# Altium footprint library SparkFun-RF.PCBLIB: 42 footprints (part 1 of 3)
Each footprint in its own frame and in the unit in brackets; x right, y up, seen from the top. Pads: shape width x height; smd on the part's side, far side on the other; paste and mask are expansions set on the pad; w line width, h text height; cw(c..) or ccw(c..) is an arc to the next point about the centre after c.
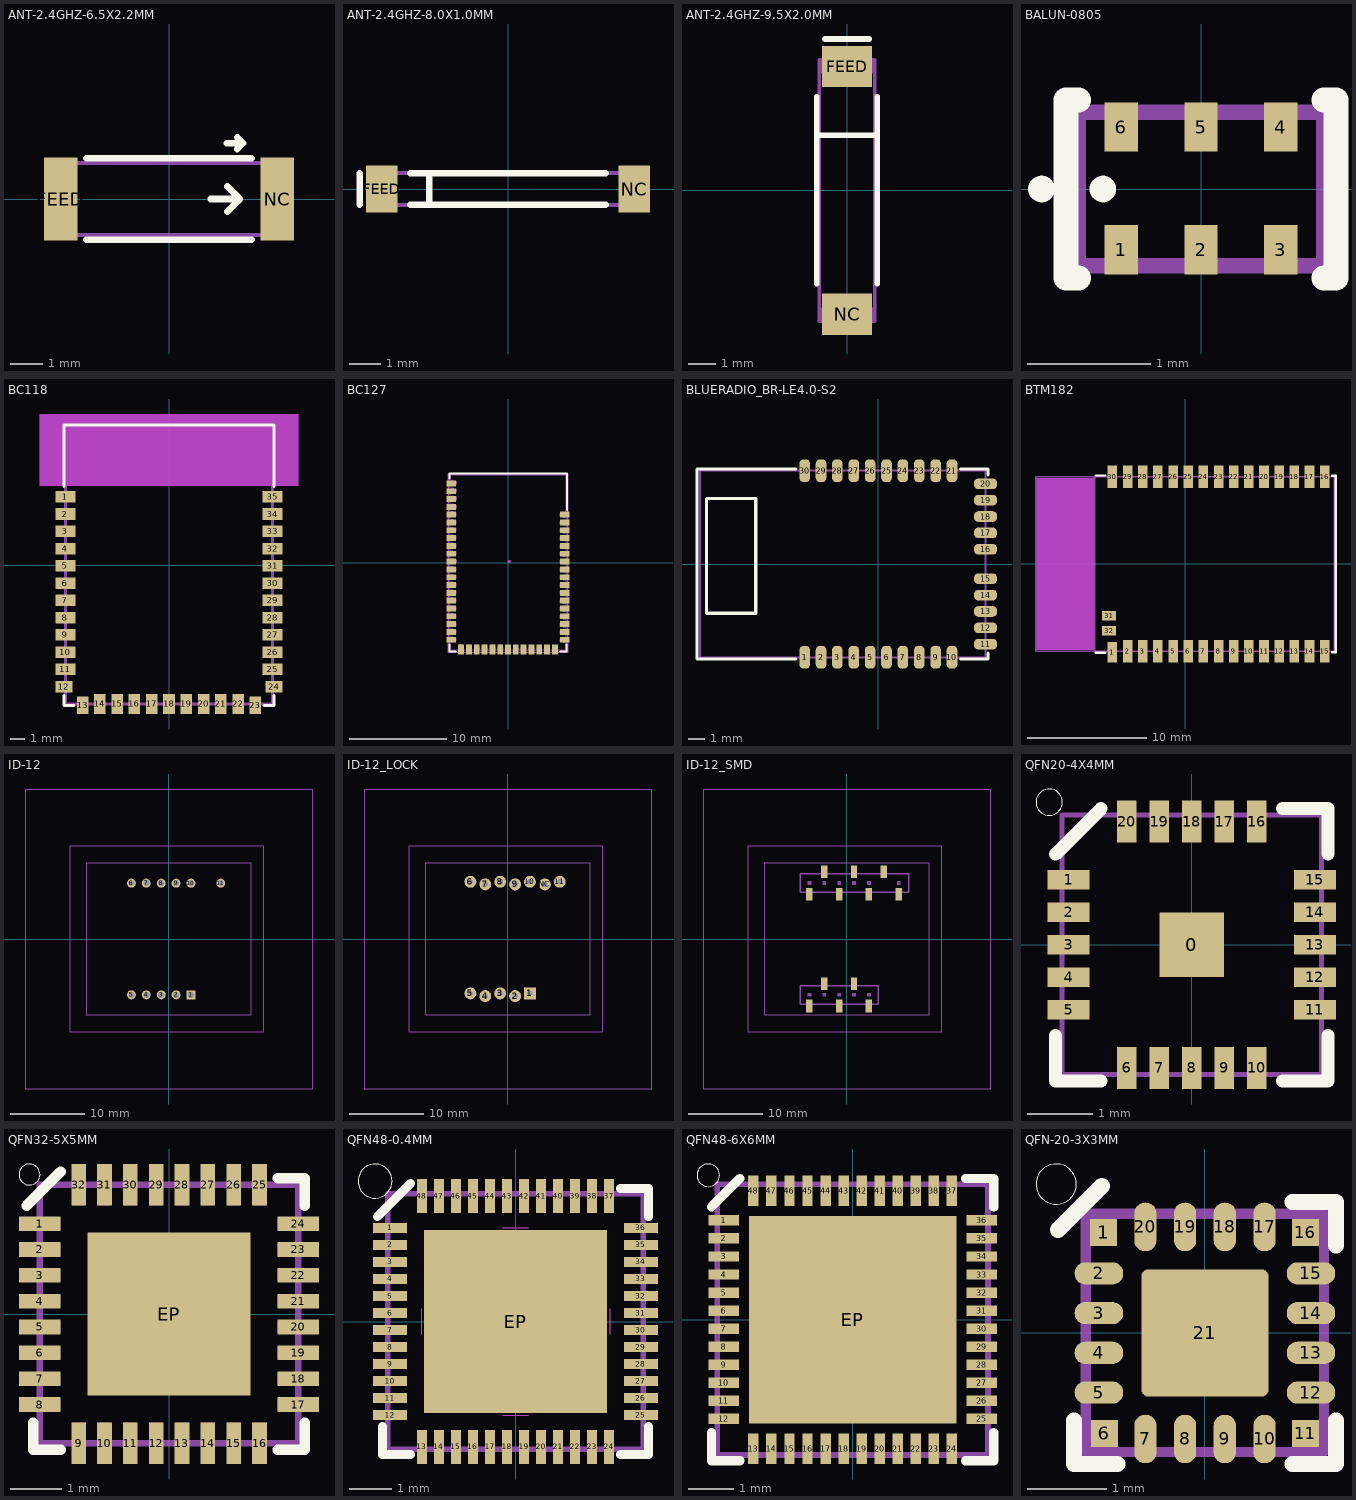
[diagram p0: the footprints below, top view; thin cyan lines are the x and y axes]

## ANT-2.4GHZ-6.5X2.2MM [mil]
pads (2):
  rect 40x100 smd: FEED(-130,0) NC(130,0)
Top Overlay:
  lines w8: -98.94,-48.94 98.94,-48.94 ; -98.94,48.94 98.94,48.94 ; 50,0 85,0 ; 69.69,66.93 88.94,66.93 ; 70,-15 85,0 ; 70,15 85,0 ; 81.81,59.8 88.94,66.93 ; 81.81,74.06 88.94,66.93
Mechanical 16:
  lines w5: -127.95,-43.31 -127.95,43.31 127.95,43.31 127.95,-43.31 -127.95,-43.31
  text "AF" at 20,5 h49.6

## ANT-2.4GHZ-8.0X1.0MM [mm]
pads (2):
  rect 1x1.5 smd: FEED(-4,0) NC(4,0)
Top Overlay:
  lines w0.203: -4.7,-0.5 -4.7,0.5 ; -3.1,-0.5 -2.5,-0.5 ; -3.1,0.5 -2.5,0.5 ; 3.1,-0.5 -2.5,-0.5 ; 3.1,0.5 -2.5,0.5 ; -2.5,-0.5 -2.5,0.5
Mechanical 16:
  lines w0.127: -2.5,-0.5 4,-0.5 4,0.5 -2.5,0.5 ; -2.5,-0.5 -4,-0.5 -4,0.5 -2.5,0.5 ; -2.5,-0.5 -2.5,0.5

## ANT-2.4GHZ-9.5X2.0MM [mm]
pads (2):
  rect 1.8x1.5 smd: FEED(0,4.5) NC(0,-4.5)
Top Overlay:
  lines w0.203: -1.1,-3.4 -1.1,2 ; -1.1,3.4 -1.1,2 ; -0.8,5.5 0.8,5.5 ; 1.1,-3.4 1.1,2 ; 1.1,3.4 1.1,2 ; -1.1,2 1.1,2
Mechanical 16:
  rectangle: -1,-4.75 1,-4.25
  region: 1,4.75 -1,4.75 -1,4.25 1,4.25
  lines w0.127: -1,-4.75 -1,4.75 1,4.75 1,-4.75 -1,-4.75

## BALUN-0805 [mm]
pads (6):
  rect 0.27x0.4 smd: 1(-0.65,-0.495) 2(0,-0.495) 3(0.65,-0.495) 4(0.65,0.505) 5(0,0.505) 6(-0.65,0.505)
Top Overlay:
  circle w0.127: c-1.3,0 r0.045
  circle w0.127: c-0.8,0 r0.045
  lines w0.203: -1,-0.725 -1.1,-0.725 -1.1,0.725 -1,0.725 ; 1,-0.725 1.1,-0.725 1.1,0.725 1,0.725
Mechanical 16:
  lines w0.127: -1,-0.625 1,-0.625 1,0.625 -1,0.625 -1,-0.625

## BC118 [mil]
pads (35):
  rect 55.12x31.5 smd: 1(-283.46,187.01) 2(-283.46,139.76) 3(-283.46,92.52) 4(-283.46,45.28) 5(-283.46,-1.97) 6(-283.46,-49.21) 7(-283.46,-96.46) 8(-283.46,-143.7) 9(-283.46,-190.94) 10(-283.46,-238.19) 11(-283.46,-285.43) 25(283.46,-285.43) 26(283.46,-238.19) 27(283.46,-190.94) 28(283.46,-143.7) 29(283.46,-96.46) 30(283.46,-49.21) 31(283.46,-1.97) 32(283.46,45.28) 33(283.46,92.52) 34(283.46,139.76) 35(283.46,187.01)
  rect 47.24x31.5 smd: 12(-287.4,-332.68) 24(287.4,-332.68)
  rect 31.5x47.24 smd: 13(-236.22,-383.86) 23(236.22,-383.86)
  rect 31.5x55.12 smd: 14(-188.98,-379.92) 15(-141.73,-379.92) 16(-94.49,-379.92) 17(-47.24,-379.92) 18(0,-379.92) 19(47.24,-379.92) 20(94.49,-379.92) 21(141.73,-379.92) 22(188.98,-379.92)
Top Overlay:
  lines w8: -287.4,-356.3 -287.4,-383.86 -259.84,-383.86 ; -287.4,214.57 -287.4,383.86 287.4,383.86 287.4,214.57 ; 259.84,-383.86 287.4,-383.86 287.4,-356.3
Mechanical 8 keep-out:
  rectangle: -354.33,216.54 354.33,413.39
Mechanical 9 keep-out:
  rectangle: -354.33,216.54 354.33,413.39
Mechanical 10:
  rectangle: -354.33,216.54 354.33,413.39
Mechanical 16:
  lines w8: -283.46,-379.92 -283.46,379.92 283.46,379.92 283.46,-379.92 -283.46,-379.92
Mechanical 27:
  rectangle: -354.33,216.54 354.33,413.39
Mechanical 28:
  rectangle: -354.33,216.54 354.33,413.39

## BC127 [mm]
pads (51):
  rect 1x0.6 smd: 1(-5.8,8.1) 2(-5.8,7.3) 3(-5.8,6.5) 4(-5.8,5.7) 5(-5.8,4.9) 6(-5.8,4.1) 7(-5.8,3.3) 8(-5.8,2.5) 9(-5.8,1.7) 10(-5.8,0.9) 11(-5.8,0.1) 12(-5.8,-0.7) 13(-5.8,-1.5) 14(-5.8,-2.3) 15(-5.8,-3.1) 16(-5.8,-3.9) 17(-5.8,-4.7) 18(-5.8,-5.5) 19(-5.8,-6.3) 20(-5.8,-7.1) 21(-5.8,-7.9) 35(5.8,-7.9) 36(5.8,-7.1) 37(5.8,-6.3) 38(5.8,-5.5) 39(5.8,-4.7) 40(5.8,-3.9) 41(5.8,-3.1) 42(5.8,-2.3) 43(5.8,-1.5) 44(5.8,-0.7) 45(5.8,0.1) 46(5.8,0.9) 47(5.8,1.7) 48(5.8,2.5) 49(5.8,3.3) 50(5.8,4.1) 51(5.8,4.9)
  rect 0.6x1 smd: 22(-4.8,-8.9) 23(-4,-8.9) 24(-3.2,-8.9) 25(-2.4,-8.9) 26(-1.6,-8.9) 27(-0.8,-8.9) 28(0,-8.9) 29(0.8,-8.9) 30(1.6,-8.9) 31(2.4,-8.9) 32(3.2,-8.9) 33(4,-8.9) 34(4.8,-8.9)
Top Overlay:
  lines w0.203: -6,-8.4 -6,-9.1 -5.3,-9.1 ; -6,8.6 -6,9.1 6.05,9.1 6.05,5.4 ; 5.3,-9.1 6,-9.1 6,-8.4
Top Paste:
  drawing of 51 lines, arcs and shapes, not listed
Mechanical 8 keep-out:
  region: 0,0 0.254,0 0.254,0.254 0,0.254
Mechanical 9 keep-out:
  region: 0,0 0.254,0 0.254,0.254 0,0.254
Mechanical 16:
  lines w0.127: -5.9,-9 -5.9,9 5.9,9 5.9,-9 -5.9,-9
Mech84:
  drawing of 2261 lines, arcs and shapes, not listed
  text "//kentro/work/Production/AOI Parts/Eric/EROCKMOD.bmp" at -6.285,-9.261 h0.04

## BLUERADIO_BR-LE4.0-S2 [mm]
pads (30):
  rrect80% 0.65x1.4 smd: 1(-4.5,-5.7) 2(-3.5,-5.7) 3(-2.5,-5.7) 4(-1.5,-5.7) 5(-0.5,-5.7) 6(0.5,-5.7) 7(1.5,-5.7) 8(2.5,-5.7) 9(3.5,-5.7) 10(4.5,-5.7) 21(4.5,5.7) 22(3.5,5.7) 23(2.5,5.7) 24(1.5,5.7) 25(0.5,5.7) 26(-0.5,5.7) 27(-1.5,5.7) 28(-2.5,5.7) 29(-3.5,5.7) 30(-4.5,5.7)
  rrect80% 1.4x0.65 smd: 11(6.55,-4.9) 12(6.55,-3.9) 13(6.55,-2.9) 14(6.55,-1.9) 15(6.55,-0.9) 16(6.55,0.9) 17(6.55,1.9) 18(6.55,2.9) 19(6.55,3.9) 20(6.55,4.9)
Top Overlay:
  lines w0.203: -5.045,-5.8 -11.08,-5.8 -11.08,5.8 -5.045,5.8 ; 5.04,-5.8 6.7,-5.8 6.7,-5.45 ; 5.04,5.8 6.7,5.8 6.7,5.45 ; -10.5,-3 -10.5,4 -7.5,4 -7.5,-3 -10.5,-3
Top Paste:
  rectangle: -4.7,5.2 -4.3,6.2
  rectangle: -3.7,5.2 -3.3,6.2
  rectangle: -2.7,5.2 -2.3,6.2
  rectangle: -1.7,5.2 -1.3,6.2
  rectangle: -0.7,5.2 -0.3,6.2
  rectangle: 0.3,5.2 0.7,6.2
  rectangle: 1.3,5.2 1.7,6.2
  rectangle: 2.3,5.2 2.7,6.2
  rectangle: 3.3,5.2 3.7,6.2
  rectangle: 4.3,5.2 4.7,6.2
  region: 7.05,4.7 7.05,5.1 6.05,5.1 6.05,4.7
  region: 7.05,3.7 7.05,4.1 6.05,4.1 6.05,3.7
  region: 7.05,2.7 7.05,3.1 6.05,3.1 6.05,2.7
  region: 7.05,1.7 7.05,2.1 6.05,2.1 6.05,1.7
  region: 7.05,0.7 7.05,1.1 6.05,1.1 6.05,0.7
  region: 7.05,-1.1 7.05,-0.7 6.05,-0.7 6.05,-1.1
  region: 7.05,-2.1 7.05,-1.7 6.05,-1.7 6.05,-2.1
  region: 7.05,-3.1 7.05,-2.7 6.05,-2.7 6.05,-3.1
  region: 7.05,-4.1 7.05,-3.7 6.05,-3.7 6.05,-4.1
  region: 7.05,-5.1 7.05,-4.7 6.05,-4.7 6.05,-5.1
  region: 4.7,-5.2 4.3,-5.2 4.3,-6.2 4.7,-6.2
  region: 3.7,-5.2 3.3,-5.2 3.3,-6.2 3.7,-6.2
  region: 2.7,-5.2 2.3,-5.2 2.3,-6.2 2.7,-6.2
  region: 1.7,-5.2 1.3,-5.2 1.3,-6.2 1.7,-6.2
  region: 0.7,-5.2 0.3,-5.2 0.3,-6.2 0.7,-6.2
  region: -0.3,-5.2 -0.7,-5.2 -0.7,-6.2 -0.3,-6.2
  region: -1.3,-5.2 -1.7,-5.2 -1.7,-6.2 -1.3,-6.2
  region: -2.3,-5.2 -2.7,-5.2 -2.7,-6.2 -2.3,-6.2
  region: -3.3,-5.2 -3.7,-5.2 -3.7,-6.2 -3.3,-6.2
  region: -4.3,-5.2 -4.7,-5.2 -4.7,-6.2 -4.3,-6.2
Mechanical 16:
  lines w0.127: -10.9,-5.7 -10.9,5.7 6.55,5.7 6.55,-5.7 -10.9,-5.7

## BTM182 [mil]
pads (32):
  rect 31.5x66.93 smd: 1(-240.16,-291.34)
  rect 31.5x74.8 smd: 2(-190.16,-287.4) 3(-140.16,-287.4) 4(-90.16,-287.4) 5(-40.16,-287.4) 6(9.84,-287.4) 7(59.84,-287.4) 8(109.84,-287.4) 9(159.84,-287.4) 10(209.84,-287.4) 11(259.84,-287.4) 12(309.84,-287.4) 13(359.84,-287.4) 14(409.84,-287.4) 15(459.84,-287.4) 16(459.84,287.4) 17(409.84,287.4) 18(359.84,287.4) 19(309.84,287.4) 20(259.84,287.4) 21(209.84,287.4) 22(159.84,287.4) 23(109.84,287.4) 24(59.84,287.4) 25(9.84,287.4) 26(-40.16,287.4) 27(-90.16,287.4) 28(-140.16,287.4) 29(-190.16,287.4) 30(-240.16,287.4)
  rect 47.24x31.5 smd: 31(-251.18,-170.87) 32(-251.18,-220.87)
Top Overlay:
  lines w8: -295.9,-292.18 -264.4,-292.18 ; -295.9,291.82 -264.4,291.82 ; 484.25,-291.34 496.06,-291.34 496.06,291.34 484.25,291.34
Mechanical 8 keep-out:
  rectangle: -488.19,-283.46 -303.15,283.46
Mechanical 16:
  lines w5: -476.38,-248.03 -329.53,-101.18 ; -476.38,66.93 -329.53,213.78 ; -476.38,106.3 -318.9,263.78 ; -476.38,145.67 -358.27,263.78 ; -476.38,185.04 -397.64,263.78 ; -476.38,224.41 -437.01,263.78 ; -437.01,-248.03 -329.53,-140.55 ; -397.64,-248.03 -318.9,-169.29 ; -358.27,-248.03 -318.9,-208.66 ; -299.21,-287.4 -492.13,-287.4 -492.13,287.4 -299.21,287.4 ; -299.21,-287.4 492.13,-287.4 492.13,287.4 -299.21,287.4 ; -299.21,-287.4 -299.21,287.4
  text "NO COPPER" at -460.63,-15.75 h24.8

## ID-12 [mm]
pads (11):
  rect 1.2x1.2 hole 0.8: 1(3,-7.5)
  round 1.2 hole 0.8: 2(1,-7.5) 3(-1,-7.5) 4(-3,-7.5) 5(-5,-7.5) 6(-5,7.5) 7(-3,7.5) 8(-1,7.5) 9(1,7.5) 10(3,7.5) 11(7,7.5)
Mechanical 16:
  lines w0.127: -19.2,-20.15 -19.2,20.15 19.3,20.15 19.3,-20.15 -19.2,-20.15 ; -13.3,-12.45 12.8,-12.45 12.8,12.45 -13.3,12.45 -13.3,-12.45 ; -11,-10.25 -11,10.25 11,10.25 11,-10.25 -11,-10.25
  text "ID-2" at -0.1,10.4 h0.52
  text "ID-12" at -0.1,12.6 h0.52
  text "ID-20" at -0.1,20.3 h0.52

## ID-12_LOCK [mil]
pads (12):
  rect 63x63 hole 29: 1(118.07,-287.83)
  round 63 hole 29: 2(39.33,-301.83) 3(-39.41,-287.83) 4(-118.15,-301.83) 5(-196.89,-287.83) 6(-196.89,302.72) 7(-118.15,288.72) 8(-39.41,302.72) 9(39.33,288.72) 10(118.07,302.72) 11(275.55,302.72) NC(197.33,288.72)
Mechanical 16:
  region: 286.11,291.72 286.11,299.72 266.11,299.72 266.11,291.72
  region: 127.11,291.72 127.11,299.72 107.11,299.72 107.11,291.72
  region: 49.11,291.72 49.11,299.72 29.11,299.72 29.11,291.72
  region: -28.89,291.72 -28.89,299.72 -48.89,299.72 -48.89,291.72
  region: -107.89,291.72 -107.89,299.72 -127.89,299.72 -127.89,291.72
  region: -186.89,291.72 -186.89,299.72 -206.89,299.72 -206.89,291.72
  region: 128.11,-299.28 128.11,-291.28 108.11,-291.28 108.11,-299.28
  region: 49.11,-299.28 49.11,-291.28 29.11,-291.28 29.11,-299.28
  region: -30.89,-299.28 -30.89,-291.28 -50.89,-291.28 -50.89,-299.28
  region: -108.89,-299.28 -108.89,-291.28 -128.89,-291.28 -128.89,-299.28
  region: -186.89,-299.28 -186.89,-291.28 -206.89,-291.28 -206.89,-299.28
  lines w5: -755.91,-793.31 -755.91,793.31 759.84,793.31 759.84,-793.31 -755.91,-793.31 ; -523.62,-490.16 503.94,-490.16 503.94,490.16 -523.62,490.16 -523.62,-490.16 ; -433.07,-403.54 -433.07,403.54 433.07,403.54 433.07,-403.54 -433.07,-403.54
  text "NC" at 184.11,281.72 h24.8
  text "ID-2" at -3.94,409.45 h20.4
  text "ID-12" at -3.94,496.06 h20.4
  text "ID-20" at -3.94,799.21 h20.4

## ID-12_SMD [mm]
pads (12):
  rect 0.85x1.7 smd: 1(2.993,-8.998) 2(0.993,-5.998) 3(-1.007,-8.998) 4(-3.007,-5.998) 5(-5.007,-8.998) 6(-5.007,6.013) 7(-3.007,9.013) 8(-1.007,6.013) 9(0.993,9.013) 10(2.993,6.013) 11(6.993,6.013) NC(4.993,9.013)
Mechanical 16:
  rectangle: -1.254,7.257 -0.746,7.765
  rectangle: -3.254,7.257 -2.746,7.765
  rectangle: -5.254,7.257 -4.746,7.765
  rectangle: 0.746,7.257 1.254,7.765
  rectangle: 2.746,7.257 3.254,7.765
  rectangle: 6.746,7.257 7.254,7.765
  rectangle: -1.254,-7.754 -0.746,-7.246
  rectangle: -3.254,-7.754 -2.746,-7.246
  rectangle: -5.254,-7.754 -4.746,-7.246
  rectangle: 0.746,-7.754 1.254,-7.246
  rectangle: 2.746,-7.754 3.254,-7.246
  lines w0.127: -19.2,-20.15 -19.2,20.15 19.3,20.15 19.3,-20.15 -19.2,-20.15 ; -13.3,-12.45 12.8,-12.45 12.8,12.45 -13.3,12.45 -13.3,-12.45 ; -11,-10.25 -11,10.25 11,10.25 11,-10.25 -11,-10.25
  lines w0.203: -6.257,-8.748 -6.257,-6.248 ; -6.257,6.263 -6.257,8.763 ; -6.244,-8.748 4.274,-8.748 4.274,-6.248 -6.244,-6.248 ; -6.244,6.263 8.338,6.263 8.338,8.763 -6.244,8.763
  text "ID-2" at -0.1,10.4 h0.52
  text "ID-12" at -0.1,12.6 h0.52
  text "ID-20" at -0.1,20.3 h0.52

## QFN20-4X4MM [mm]
pads (21):
  rect 1x1 smd: 0(0,0)
  rect 0.65x0.3 smd: 1(-1.9,1) 2(-1.9,0.5) 3(-1.9,0) 4(-1.9,-0.5) 5(-1.9,-1) 11(1.9,-1) 12(1.9,-0.5) 13(1.9,0) 14(1.9,0.5) 15(1.9,1)
  rect 0.3x0.65 smd: 6(-1,-1.9) 7(-0.5,-1.9) 8(0,-1.9) 9(0.5,-1.9) 10(1,-1.9) 16(1,1.9) 17(0.5,1.9) 18(0,1.9) 19(-0.5,1.9) 20(-1,1.9)
Top Overlay:
  circle w0: c-2.2,2.2 r0.203
  lines w0.203: -2.1,-1.4 -2.1,-2.1 -1.4,-2.1 ; -2.1,1.4 -1.4,2.1 ; 1.4,-2.1 2.1,-2.1 2.1,-1.4 ; 1.4,2.1 2.1,2.1 2.1,1.4
Top Paste:
  rectangle: -0.25,-0.25 0.25,0.25
  rectangle: -2.095,0.902 -1.613,1.105
  rectangle: -2.095,0.394 -1.613,0.597
  rectangle: -2.095,-0.102 -1.613,0.102
  rectangle: -2.095,-0.597 -1.613,-0.394
  rectangle: -2.095,-1.105 -1.613,-0.902
  rectangle: 1.613,0.902 2.095,1.105
  rectangle: 1.613,0.394 2.095,0.597
  rectangle: 1.613,-0.102 2.095,0.102
  rectangle: 1.613,-0.597 2.095,-0.394
  rectangle: 1.613,-1.105 2.095,-0.902
  region: -0.902,1.613 -0.902,2.095 -1.105,2.095 -1.105,1.613
  region: -0.394,1.613 -0.394,2.095 -0.597,2.095 -0.597,1.613
  region: 0.102,1.613 0.102,2.095 -0.102,2.095 -0.102,1.613
  region: 0.597,1.613 0.597,2.095 0.394,2.095 0.394,1.613
  region: 1.105,1.613 1.105,2.095 0.902,2.095 0.902,1.613
  region: -0.902,-2.095 -0.902,-1.613 -1.105,-1.613 -1.105,-2.095
  region: -0.394,-2.095 -0.394,-1.613 -0.597,-1.613 -0.597,-2.095
  region: 0.102,-2.095 0.102,-1.613 -0.102,-1.613 -0.102,-2.095
  region: 0.597,-2.095 0.597,-1.613 0.394,-1.613 0.394,-2.095
  region: 1.105,-2.095 1.105,-1.613 0.902,-1.613 0.902,-2.095
Mechanical 16:
  lines w0.076: -2,-2 -2,2 2,2 2,-2 -2,-2

## QFN32-5X5MM [mil]
pads (33):
  rect 31.5x11.2 smd: 1(-98.43,68.9) 2(-98.43,49.21) 3(-98.43,29.53) 4(-98.43,9.84) 5(-98.43,-9.84) 6(-98.43,-29.53) 7(-98.43,-49.21) 8(-98.43,-68.9) 17(98.43,-68.9) 18(98.43,-49.21) 19(98.43,-29.53) 20(98.43,-9.84) 21(98.43,9.84) 22(98.43,29.53) 23(98.43,49.21) 24(98.43,68.9)
  rect 11.2x31.5 smd: 9(-68.9,-98.43) 10(-49.21,-98.43) 11(-29.53,-98.43) 12(-9.84,-98.43) 13(9.84,-98.43) 14(29.53,-98.43) 15(49.21,-98.43) 16(68.9,-98.43) 25(68.9,98.43) 26(49.21,98.43) 27(29.53,98.43) 28(9.84,98.43) 29(-9.84,98.43) 30(-29.53,98.43) 31(-49.21,98.43) 32(-68.9,98.43)
  rect 124.02x124.02 smd: EP(0,0)
Top Overlay:
  circle w0: c-106.3,106.3 r8
  lines w8: -108.43,82.68 -82.68,108.43 ; -103.43,-82.68 -103.43,-103.43 -82.68,-103.43 ; 82.68,-103.43 103.43,-103.43 103.43,-82.68 ; 82.68,103.43 103.43,103.43 103.43,82.68
Top Paste:
  rectangle: -57.09,5.91 -5.91,57.09
  region: 5.91,57.09 5.91,5.91 57.09,5.91 57.09,57.09
  region: -5.91,-57.09 -5.91,-5.91 -57.09,-5.91 -57.09,-57.09
  region: 57.09,-5.91 5.91,-5.91 5.91,-57.09 57.09,-57.09
Mechanical 16:
  region: 5.12,98.43 5.12,82.68 14.57,82.68 14.57,98.43
  region: -14.57,98.43 -14.57,82.68 -5.12,82.68 -5.12,98.43
  region: -34.25,98.43 -34.25,82.68 -24.8,82.68 -24.8,98.43
  region: -53.94,98.43 -53.94,82.68 -44.49,82.68 -44.49,98.43
  region: -73.62,98.43 -73.62,82.68 -64.17,82.68 -64.17,98.43
  region: 24.8,98.43 24.8,82.68 34.25,82.68 34.25,98.43
  region: 44.49,98.43 44.49,82.68 53.94,82.68 53.94,98.43
  region: 64.17,98.43 64.17,82.68 73.62,82.68 73.62,98.43
  region: 98.43,-5.12 82.68,-5.12 82.68,-14.57 98.43,-14.57
  region: 98.43,14.57 82.68,14.57 82.68,5.12 98.43,5.12
  region: 98.43,34.25 82.68,34.25 82.68,24.8 98.43,24.8
  region: 98.43,53.94 82.68,53.94 82.68,44.49 98.43,44.49
  region: 98.43,73.62 82.68,73.62 82.68,64.17 98.43,64.17
  region: 98.43,-24.8 82.68,-24.8 82.68,-34.25 98.43,-34.25
  region: 98.43,-44.49 82.68,-44.49 82.68,-53.94 98.43,-53.94
  region: 98.43,-64.17 82.68,-64.17 82.68,-73.62 98.43,-73.62
  rectangle: -98.43,5.12 -82.68,14.57
  rectangle: -98.43,-14.57 -82.68,-5.12
  rectangle: -98.43,-34.25 -82.68,-24.8
  rectangle: -98.43,-53.94 -82.68,-44.49
  rectangle: -98.43,-73.62 -82.68,-64.17
  rectangle: -98.43,24.8 -82.68,34.25
  rectangle: -98.43,44.49 -82.68,53.94
  rectangle: -98.43,64.17 -82.68,73.62
  region: -5.12,-98.43 -5.12,-82.68 -14.57,-82.68 -14.57,-98.43
  region: 14.57,-98.43 14.57,-82.68 5.12,-82.68 5.12,-98.43
  region: 34.25,-98.43 34.25,-82.68 24.8,-82.68 24.8,-98.43
  region: 53.94,-98.43 53.94,-82.68 44.49,-82.68 44.49,-98.43
  region: 73.62,-98.43 73.62,-82.68 64.17,-82.68 64.17,-98.43
  region: -24.8,-98.43 -24.8,-82.68 -34.25,-82.68 -34.25,-98.43
  region: -44.49,-98.43 -44.49,-82.68 -53.94,-82.68 -53.94,-98.43
  region: -64.17,-98.43 -64.17,-82.68 -73.62,-82.68 -73.62,-98.43
  lines w5: -98.43,-98.43 -98.43,98.43 98.43,98.43 98.43,-98.43 -98.43,-98.43

## QFN48-0.4MM [mil]
pads (49):
  rect 31.5x9.06 smd: 1(-116.14,86.61) 2(-116.14,70.87) 3(-116.14,55.12) 4(-116.14,39.37) 5(-116.14,23.62) 6(-116.14,7.87) 7(-116.14,-7.87) 8(-116.14,-23.62) 9(-116.14,-39.37) 10(-116.14,-55.12) 11(-116.14,-70.87) 12(-116.14,-86.61) 25(116.14,-86.61) 26(116.14,-70.87) 27(116.14,-55.12) 28(116.14,-39.37) 29(116.14,-23.62) 30(116.14,-7.87) 31(116.14,7.87) 32(116.14,23.62) 33(116.14,39.37) 34(116.14,55.12) 35(116.14,70.87) 36(116.14,86.61)
  rect 9.06x31.5 smd: 13(-86.61,-116.14) 14(-70.87,-116.14) 15(-55.12,-116.14) 16(-39.37,-116.14) 17(-23.62,-116.14) 18(-7.87,-116.14) 19(7.87,-116.14) 20(23.62,-116.14) 21(39.37,-116.14) 22(55.12,-116.14) 23(70.87,-116.14) 24(86.61,-116.14) 37(86.61,116.14) 38(70.87,116.14) 39(55.12,116.14) 40(39.37,116.14) 41(23.62,116.14) 42(7.87,116.14) 43(-7.87,116.14) 44(-23.62,116.14) 45(-39.37,116.14) 46(-55.12,116.14) 47(-70.87,116.14) 48(-86.61,116.14)
  rect 169.29x169.29 smd: EP(0,0)
Top Overlay:
  circle w0: c-130,130 r15.81
  lines w8: -128.11,96.89 -96.89,128.11 ; -123.11,-96.89 -123.11,-123.11 -96.89,-123.11 ; 96.89,-123.11 123.11,-123.11 123.11,-96.89 ; 96.89,123.11 123.11,123.11 123.11,96.89
Top Paste:
  rectangle: 12.4,12.4 72.25,72.25
  region: -12.4,12.4 -12.4,72.25 -72.25,72.25 -72.25,12.4
  region: -12.4,-12.4 -72.25,-12.4 -72.25,-72.25 -12.4,-72.25
  region: 12.4,-12.4 12.4,-72.25 72.25,-72.25 72.25,-12.4
Mechanical 8 keep-out:
  lines w1: -87,-12 -87,12 ; -12,-87 12,-87 ; -12,87 12,87 ; 87,-12 87,12
Mechanical 16:
  drawing of 53 lines, arcs and shapes, not listed

## QFN48-6X6MM [mm]
pads (49):
  rect 0.68x0.23 smd: 1(-2.86,2.2) 2(-2.86,1.8) 3(-2.86,1.4) 4(-2.86,1) 5(-2.86,0.6) 6(-2.86,0.2) 7(-2.86,-0.2) 8(-2.86,-0.6) 9(-2.86,-1) 10(-2.86,-1.4) 11(-2.86,-1.8) 12(-2.86,-2.2) 25(2.86,-2.2) 26(2.86,-1.8) 27(2.86,-1.4) 28(2.86,-1) 29(2.86,-0.6) 30(2.86,-0.2) 31(2.86,0.2) 32(2.86,0.6) 33(2.86,1) 34(2.86,1.4) 35(2.86,1.8) 36(2.86,2.2)
  rect 0.23x0.68 smd: 13(-2.2,-2.86) 14(-1.8,-2.86) 15(-1.4,-2.86) 16(-1,-2.86) 17(-0.6,-2.86) 18(-0.2,-2.86) 19(0.2,-2.86) 20(0.6,-2.86) 21(1,-2.86) 22(1.4,-2.86) 23(1.8,-2.86) 24(2.2,-2.86) 37(2.2,2.86) 38(1.8,2.86) 39(1.4,2.86) 40(1,2.86) 41(0.6,2.86) 42(0.2,2.86) 43(-0.2,2.86) 44(-0.6,2.86) 45(-1,2.86) 46(-1.4,2.86) 47(-1.8,2.86) 48(-2.2,2.86)
  rect 4.6x4.6 smd: EP(0,0)
Top Overlay:
  circle w0: c-3.2,3.2 r0.25
  lines w0.203: -3.127,-2.5 -3.127,-3.127 -2.5,-3.127 ; -3.127,2.5 -2.5,3.127 ; 2.5,-3.127 3.127,-3.127 3.127,-2.5 ; 2.5,3.127 3.127,3.127 3.127,2.5
Top Paste:
  rectangle: -3.157,0.099 -2.563,0.301
  rectangle: -3.157,0.499 -2.563,0.701
  rectangle: -3.157,0.899 -2.563,1.101
  rectangle: -3.157,1.299 -2.563,1.501
  rectangle: -3.157,1.699 -2.563,1.901
  rectangle: -3.157,2.099 -2.563,2.301
  rectangle: -3.157,-0.301 -2.563,-0.099
  rectangle: -3.157,-0.701 -2.563,-0.499
  rectangle: -3.157,-1.101 -2.563,-0.899
  rectangle: -3.157,-1.501 -2.563,-1.299
  rectangle: -3.157,-1.901 -2.563,-1.699
  rectangle: -3.157,-2.301 -2.563,-2.099
  region: -2.099,-3.158 -2.099,-2.562 -2.301,-2.562 -2.301,-3.158
  region: -1.699,-3.158 -1.699,-2.562 -1.901,-2.562 -1.901,-3.158
  region: -1.299,-3.157 -1.299,-2.563 -1.501,-2.563 -1.501,-3.157
  region: -0.899,-3.157 -0.899,-2.563 -1.101,-2.563 -1.101,-3.157
  region: -0.499,-3.157 -0.499,-2.563 -0.701,-2.563 -0.701,-3.157
  region: -0.099,-3.158 -0.099,-2.562 -0.301,-2.562 -0.301,-3.158
  region: 0.301,-3.158 0.301,-2.562 0.099,-2.562 0.099,-3.158
  region: 0.701,-3.157 0.701,-2.563 0.499,-2.563 0.499,-3.157
  region: 1.101,-3.157 1.101,-2.563 0.899,-2.563 0.899,-3.157
  region: 1.501,-3.157 1.501,-2.563 1.299,-2.563 1.299,-3.157
  region: 1.901,-3.158 1.901,-2.562 1.699,-2.562 1.699,-3.158
  region: 2.301,-3.158 2.301,-2.562 2.099,-2.562 2.099,-3.158
  region: 3.157,-2.099 2.563,-2.099 2.563,-2.301 3.157,-2.301
  region: 3.157,-1.699 2.563,-1.699 2.563,-1.901 3.157,-1.901
  region: 3.157,-1.299 2.563,-1.299 2.563,-1.501 3.157,-1.501
  region: 3.157,-0.899 2.563,-0.899 2.563,-1.101 3.157,-1.101
  region: 3.157,-0.499 2.563,-0.499 2.563,-0.701 3.157,-0.701
  region: 3.157,0.301 2.563,0.301 2.563,0.099 3.157,0.099
  region: 3.157,-0.099 2.563,-0.099 2.563,-0.301 3.157,-0.301
  region: 3.157,0.701 2.563,0.701 2.563,0.499 3.157,0.499
  region: 3.157,1.101 2.563,1.101 2.563,0.899 3.157,0.899
  region: 3.157,1.501 2.563,1.501 2.563,1.299 3.157,1.299
  region: 3.157,2.301 2.563,2.301 2.563,2.099 3.157,2.099
  region: 3.157,1.901 2.563,1.901 2.563,1.699 3.157,1.699
  region: 2.099,3.158 2.099,2.562 2.301,2.562 2.301,3.158
  region: 1.699,3.158 1.699,2.562 1.901,2.562 1.901,3.158
  region: 1.299,3.157 1.299,2.563 1.501,2.563 1.501,3.157
  region: 0.899,3.157 0.899,2.563 1.101,2.563 1.101,3.157
  region: 0.499,3.157 0.499,2.563 0.701,2.563 0.701,3.157
  region: 0.099,3.158 0.099,2.562 0.301,2.562 0.301,3.158
  region: -0.301,3.158 -0.301,2.562 -0.099,2.562 -0.099,3.158
  region: -0.701,3.157 -0.701,2.563 -0.499,2.563 -0.499,3.157
  region: -1.101,3.157 -1.101,2.563 -0.899,2.563 -0.899,3.157
  region: -1.501,3.157 -1.501,2.563 -1.299,2.563 -1.299,3.157
  region: -1.901,3.158 -1.901,2.562 -1.699,2.562 -1.699,3.158
  region: -2.301,3.158 -2.301,2.562 -2.099,2.562 -2.099,3.158
  rectangle: 0.489,0.489 1.811,1.811
  region: -0.489,0.489 -0.489,1.811 -1.811,1.811 -1.811,0.489
  region: -0.489,-0.489 -1.811,-0.489 -1.811,-1.811 -0.489,-1.811
  region: 0.489,-0.489 0.489,-1.811 1.811,-1.811 1.811,-0.489
Mechanical 16:
  drawing of 53 lines, arcs and shapes, not listed

## QFN-20-3X3MM [mm]
pads (21):
  rect 0.34x0.34 smd: 1(-1.275,1.265) 6(-1.265,-1.265) 11(1.265,-1.265) 16(1.265,1.265)
  rrect95% 0.61x0.28 smd: 2(-1.335,0.75) 3(-1.335,0.25) 4(-1.335,-0.25) 5(-1.335,-0.75) 12(1.335,-0.75) 13(1.335,-0.25) 14(1.335,0.25) 15(1.335,0.75)
  rrect95% 0.28x0.61 smd: 7(-0.75,-1.335) 8(-0.25,-1.335) 9(0.25,-1.335) 10(0.75,-1.335) 17(0.75,1.335) 18(0.25,1.335) 19(-0.25,1.335) 20(-0.75,1.335)
  rrect10% 1.6x1.6 smd: 21(0,0)
Top Overlay:
  circle w0: c-1.873,1.873 r0.254
  lines w0.203: -1.85,1.3 -1.3,1.85 ; -1.65,-1.1 -1.65,-1.65 -1.1,-1.65 ; 1.1,-1.65 1.65,-1.65 1.65,-1.1 ; 1.1,1.65 1.65,1.65 1.65,1.1
Top Paste:
  rectangle: -0.699,0.101 -0.111,0.676
  rectangle: 0.049,0.104 0.66,0.676
  rectangle: 0.046,-0.679 0.656,-0.072
  rectangle: -0.692,-0.676 -0.098,-0.062
Top Solder:
  region: 0,0 0.254,0 0.254,0.254 0,0.254
Mechanical 16:
  lines w0.127: -1.5,-1.5 1.5,-1.5 1.5,1.5 -1.5,1.5 -1.5,-1.5